# EAGLE library part SLG46867M (library GREENPAK)
GreenPAK6 SLG46867W Silego Technology www.silego.com
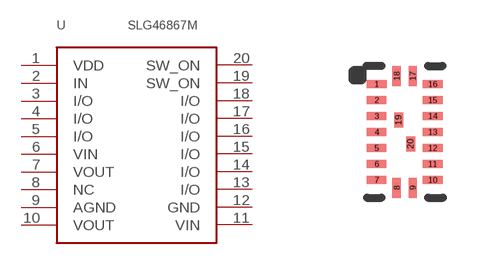
[diagram p37: symbol with the pads of MSTQFN-20-1.6X3.0; footprint MSTQFN-20-1.6X3.0]

Designator prefix -

## SLG46867M  [MSTQFN-20-1.6X3.0]
1  VDD  sup
2  IN  in
3  I/O
4  I/O
5  I/O
6  VIN  pwr
7  VOUT  pwr
8  NC  nc
9  AGND  sup
10  VOUT  pwr
11  VIN  sup
12  GND  sup
13  I/O
14  I/O
15  I/O
16  I/O
17  I/O
18  I/O
19  SW_ON
20  SW_ON

## Footprint MSTQFN-20-1.6X3.0 (pad centres in mm)
smd 0.49 x 0.21: 1 -0.699,1.199; 2 -0.699,0.799; 3 -0.699,0.399; 4 -0.699,-0.001; 5 -0.699,-0.401; 6 -0.699,-0.801; 7 -0.699,-1.201; 10 0.701,-1.201; 11 0.701,-0.801; 12 0.701,-0.401; 13 0.701,-0.001; 14 0.701,0.399; 15 0.701,0.799; 16 0.701,1.199
smd 0.21 x 0.49: 8 -0.199,-1.401; 9 0.201,-1.401; 17 0.201,1.399; 18 -0.199,1.399
smd 0.23 x 0.38: 19 -0.149,0.299; 20 0.151,-0.301